# EAGLE library part CY7C65634-48AXCT (library CY7C65634-48AXCT)
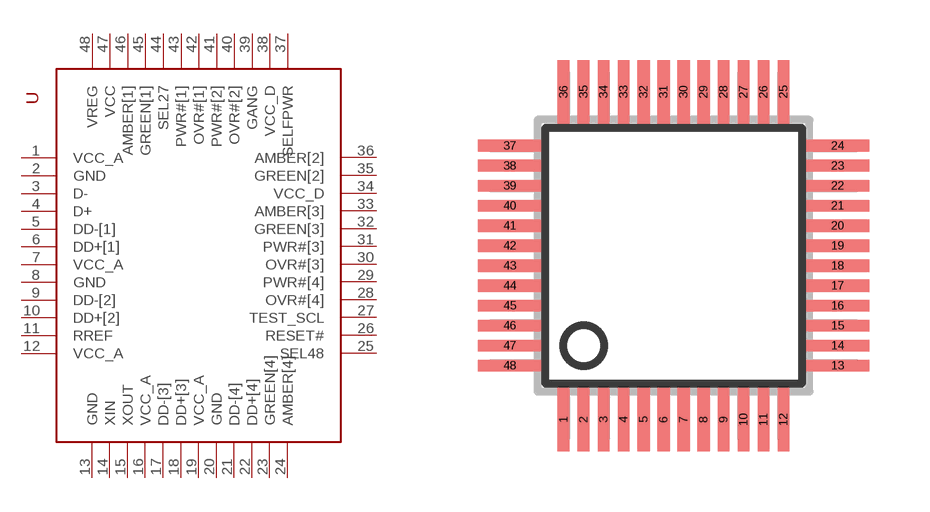
[diagram p0: symbol with the pads of TQFP48_7X7; footprint TQFP48_7X7]

Designator prefix -

## CY7C65634-48AXCT  [TQFP48_7X7]
1  VCC_A  pwr
2  GND  pwr
3  D-
4  D+
5  DD-[1]
6  DD+[1]
7  VCC_A  pwr
8  GND  pwr
9  DD-[2]
10  DD+[2]
11  RREF
12  VCC_A  pwr
13  GND  pwr
14  XIN
15  XOUT  out
16  VCC_A  pwr
17  DD-[3]
18  DD+[3]
19  VCC_A  pwr
20  GND  pwr
21  DD-[4]
22  DD+[4]
23  GREEN[4]
24  AMBER[4]
25  SEL48  in
26  RESET#  in
27  TEST_SCL  in
28  OVR#[4]
29  PWR#[4]  out
30  OVR#[3]  in
31  PWR#[3]  out
32  GREEN[3]
33  AMBER[3]
34  VCC_D  pwr
35  GREEN[2]
36  AMBER[2]
37  SELFPWR  in
38  VCC_D  pwr
39  GANG
40  OVR#[2]  in
41  PWR#[2]  out
42  OVR#[1]  in
43  PWR#[1]
44  SEL27  in
45  GREEN[1]
46  AMBER[1]  out
47  VCC  pwr
48  VREG  pwr

## Footprint TQFP48_7X7 (pad centres in mm)
Thin Quad Flat Package from SMD-IPC.lbr SQFP48 7x7
smd 0.3 x 1.6: 1 -2.75,-4.1; 2 -2.25,-4.1; 3 -1.75,-4.1; 4 -1.25,-4.1; 5 -0.75,-4.1; 6 -0.25,-4.1; 7 0.25,-4.1; 8 0.75,-4.1; 9 1.25,-4.1; 10 1.75,-4.1; 11 2.25,-4.1; 12 2.75,-4.1; 25 2.75,4.1; 26 2.25,4.1; 27 1.75,4.1; 28 1.25,4.1; 29 0.75,4.1; 30 0.25,4.1; 31 -0.25,4.1; 32 -0.75,4.1; 33 -1.25,4.1; 34 -1.75,4.1; 35 -2.25,4.1; 36 -2.75,4.1
smd 1.6 x 0.3: 13 4.1,-2.75; 14 4.1,-2.25; 15 4.1,-1.75; 16 4.1,-1.25; 17 4.1,-0.75; 18 4.1,-0.25; 19 4.1,0.25; 20 4.1,0.75; 21 4.1,1.25; 22 4.1,1.75; 23 4.1,2.25; 24 4.1,2.75; 37 -4.1,2.75; 38 -4.1,2.25; 39 -4.1,1.75; 40 -4.1,1.25; 41 -4.1,0.75; 42 -4.1,0.25; 43 -4.1,-0.25; 44 -4.1,-0.75; 45 -4.1,-1.25; 46 -4.1,-1.75; 47 -4.1,-2.25; 48 -4.1,-2.75